# Altium footprint library SnapEDApcb.PcbLib: 1 footprints
Each footprint in its own frame and in the unit in brackets; x right, y up, seen from the top. Pads: shape width x height; smd on the part's side, far side on the other; paste and mask are expansions set on the pad; w line width, h text height; cw(c..) or ccw(c..) is an arc to the next point about the centre after c.
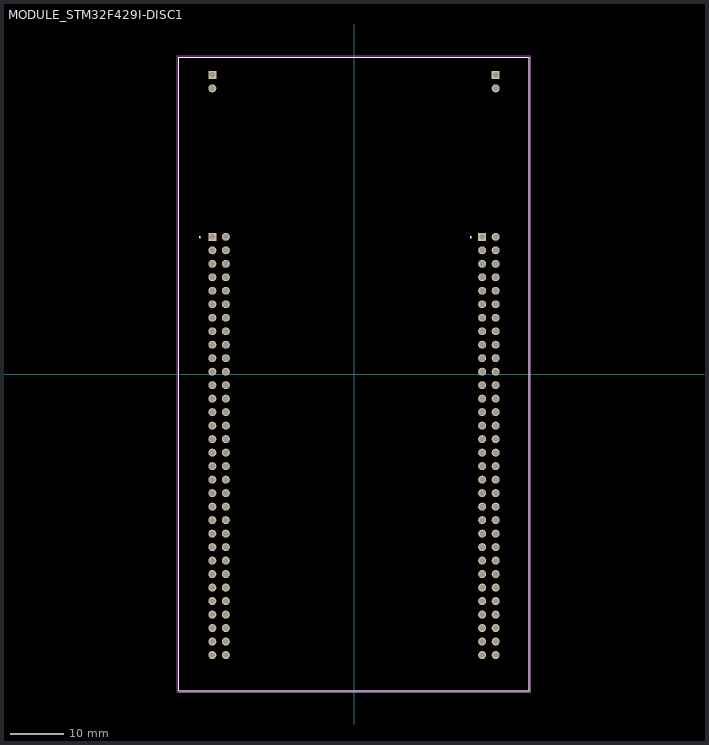
[diagram p0: the footprint, top view; thin cyan lines are the x and y axes]

## MODULE_STM32F429I-DISC1 [mm]
pads (132):
  rect 1.5x1.5 hole 1: JP1_1(-26.67,56.31) JP2_1(26.67,56.31) P1_1(-26.67,25.83) P2_1(24.13,25.83)
  round 1.5 hole 1: JP1_2(-26.67,53.77) JP2_2(26.67,53.77) P1_2(-24.13,25.83) P1_3(-26.67,23.29) P1_4(-24.13,23.29) P1_5(-26.67,20.75) P1_6(-24.13,20.75) P1_7(-26.67,18.21) P1_8(-24.13,18.21) P1_9(-26.67,15.67) P1_10(-24.13,15.67) P1_11(-26.67,13.13) P1_12(-24.13,13.13) P1_13(-26.67,10.59) P1_14(-24.13,10.59) P1_15(-26.67,8.05) P1_16(-24.13,8.05) P1_17(-26.67,5.51) P1_18(-24.13,5.51) P1_19(-26.67,2.97) P1_20(-24.13,2.97) P1_21(-26.67,0.43) P1_22(-24.13,0.43) P1_23(-26.67,-2.11) P1_24(-24.13,-2.11) P1_25(-26.67,-4.65) P1_26(-24.13,-4.65) P1_27(-26.67,-7.19) P1_28(-24.13,-7.19) P1_29(-26.67,-9.73) P1_30(-24.13,-9.73) P1_31(-26.67,-12.27) P1_32(-24.13,-12.27) P1_33(-26.67,-14.81) P1_34(-24.13,-14.81) P1_35(-26.67,-17.35) P1_36(-24.13,-17.35) P1_37(-26.67,-19.89) P1_38(-24.13,-19.89) P1_39(-26.67,-22.43) P1_40(-24.13,-22.43) P1_41(-26.67,-24.97) P1_42(-24.13,-24.97) P1_43(-26.67,-27.51) P1_44(-24.13,-27.51) P1_45(-26.67,-30.05) P1_46(-24.13,-30.05) P1_47(-26.67,-32.59) P1_48(-24.13,-32.59) P1_49(-26.67,-35.13) P1_50(-24.13,-35.13) P1_51(-26.67,-37.67) P1_52(-24.13,-37.67) P1_53(-26.67,-40.21) P1_54(-24.13,-40.21) P1_55(-26.67,-42.75) P1_56(-24.13,-42.75) P1_57(-26.67,-45.29) P1_58(-24.13,-45.29) P1_59(-26.67,-47.83) P1_60(-24.13,-47.83) P1_61(-26.67,-50.37) P1_62(-24.13,-50.37) P1_63(-26.67,-52.91) P1_64(-24.13,-52.91) P2_2(26.67,25.83) P2_3(24.13,23.29) P2_4(26.67,23.29) P2_5(24.13,20.75) P2_6(26.67,20.75) P2_7(24.13,18.21) P2_8(26.67,18.21) P2_9(24.13,15.67) P2_10(26.67,15.67) P2_11(24.13,13.13) P2_12(26.67,13.13) P2_13(24.13,10.59) P2_14(26.67,10.59) P2_15(24.13,8.05) P2_16(26.67,8.05) P2_17(24.13,5.51) P2_18(26.67,5.51) P2_19(24.13,2.97) P2_20(26.67,2.97) P2_21(24.13,0.43) P2_22(26.67,0.43) P2_23(24.13,-2.11) P2_24(26.67,-2.11) P2_25(24.13,-4.65) P2_26(26.67,-4.65) P2_27(24.13,-7.19) P2_28(26.67,-7.19) P2_29(24.13,-9.73) P2_30(26.67,-9.73) P2_31(24.13,-12.27) P2_32(26.67,-12.27) P2_33(24.13,-14.81) P2_34(26.67,-14.81) P2_35(24.13,-17.35) P2_36(26.67,-17.35) P2_37(24.13,-19.89) P2_38(26.67,-19.89) P2_39(24.13,-22.43) P2_40(26.67,-22.43) P2_41(24.13,-24.97) P2_42(26.67,-24.97) P2_43(24.13,-27.51) P2_44(26.67,-27.51) P2_45(24.13,-30.05) P2_46(26.67,-30.05) P2_47(24.13,-32.59) P2_48(26.67,-32.59) P2_49(24.13,-35.13) P2_50(26.67,-35.13) P2_51(24.13,-37.67) P2_52(26.67,-37.67) P2_53(24.13,-40.21) P2_54(26.67,-40.21) P2_55(24.13,-42.75) P2_56(26.67,-42.75) P2_57(24.13,-45.29) P2_58(26.67,-45.29) P2_59(24.13,-47.83) P2_60(26.67,-47.83) P2_61(24.13,-50.37) P2_62(26.67,-50.37) P2_63(24.13,-52.91) P2_64(26.67,-52.91)
Top Overlay:
  circle w0.2: c-29,25.77 r0.1
  circle w0.2: c22,25.77 r0.1
  lines w0.127: -33,-59.65 -33,59.65 33,59.65 33,-59.65 -33,-59.65
Mechanical 13:
  circle w0.2: c-29,25.77 r0.1
  circle w0.2: c22,25.77 r0.1
  lines w0.127: -33,-59.65 -33,59.65 33,59.65 33,-59.65 -33,-59.65
Mechanical 15:
  lines w0.05: -33.25,-59.9 -33.25,59.9 33.25,59.9 33.25,-59.9 -33.25,-59.9